# Altium integrated library Linear Technology Power Management Energy Harvesting.IntLib: 169 symbols (part 5 of 13)
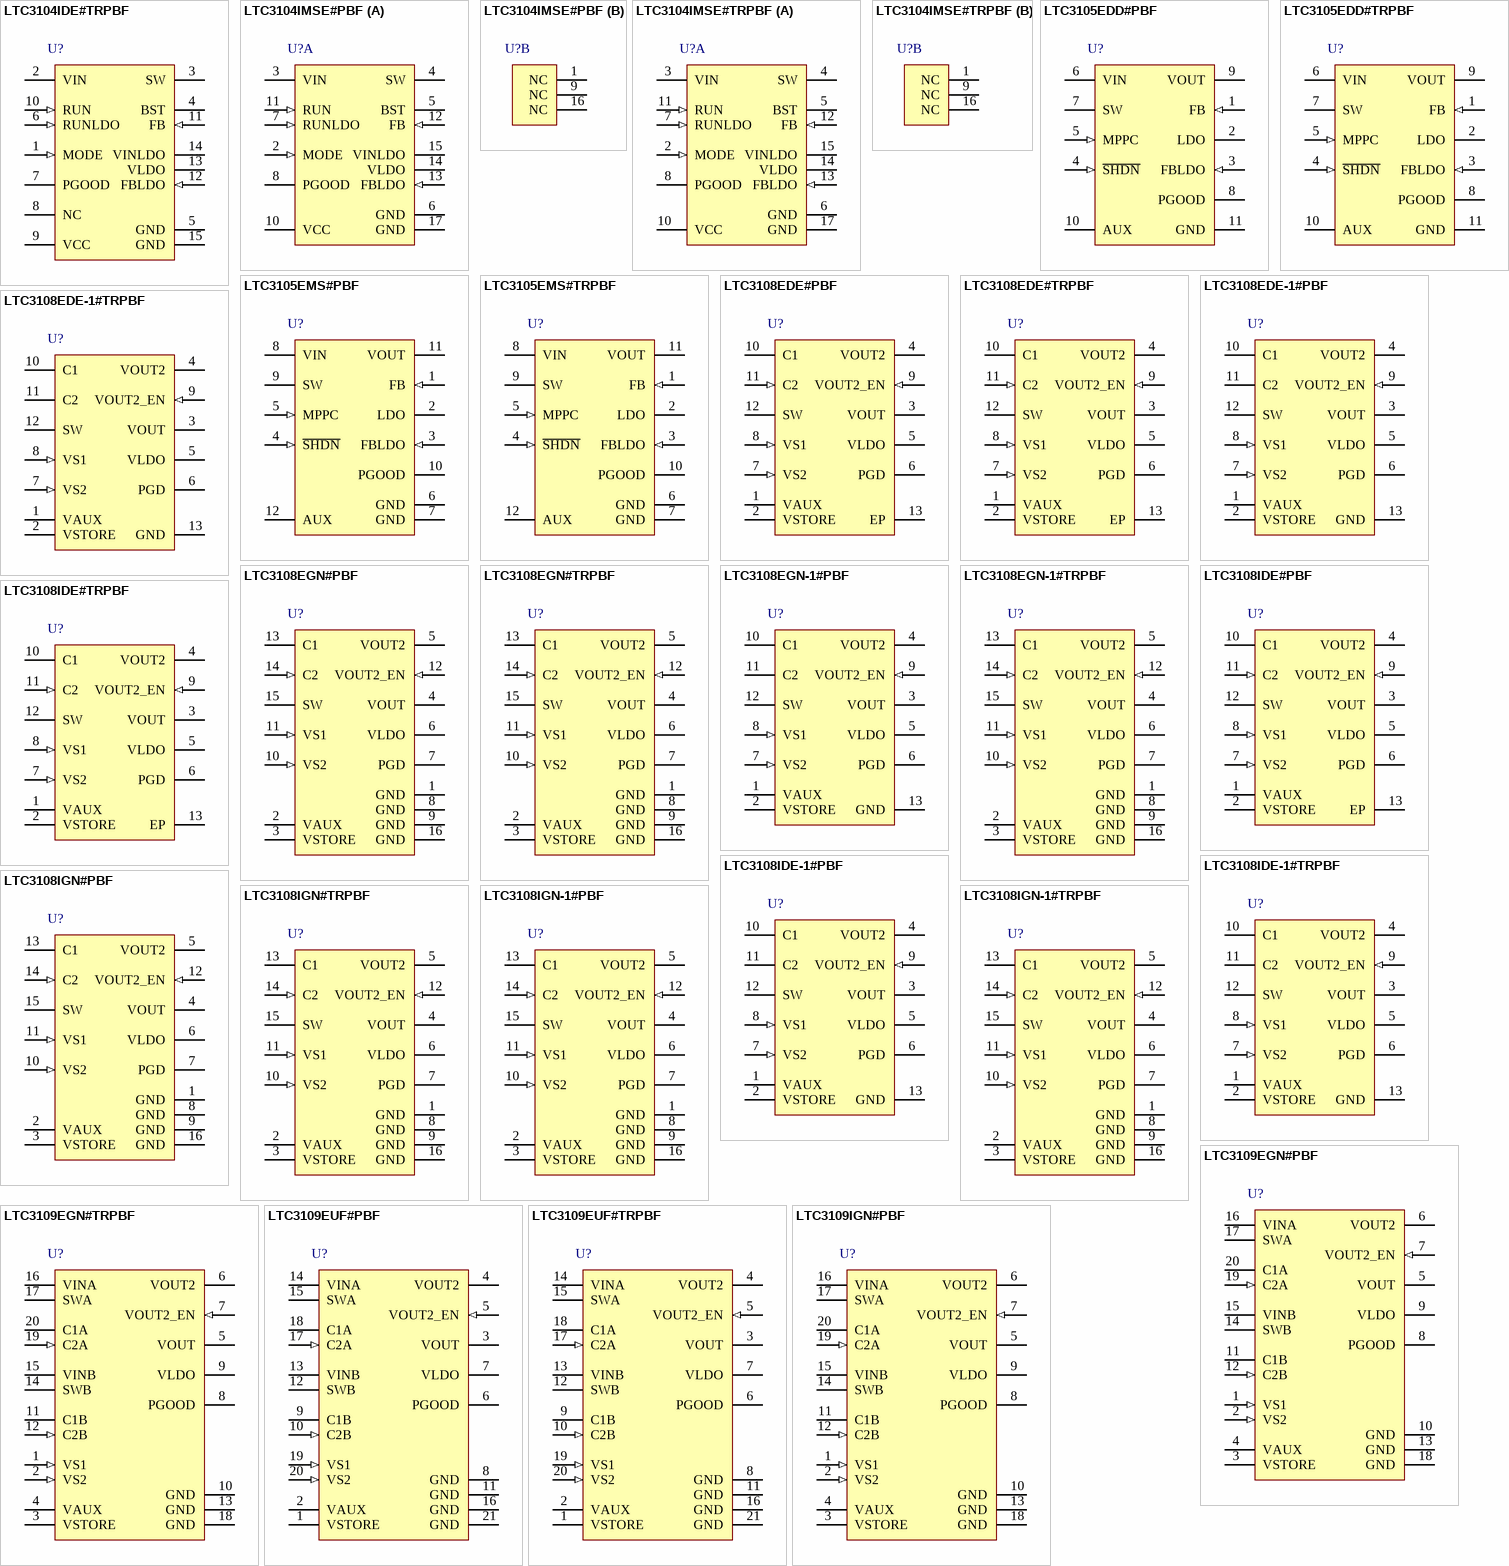
[diagram p9: symbols LTC3104IDE#TRPBF to LTC3109IGN#PBF]

## LTC3108IGN-1#TRPBF
designator U?
Ultralow Voltage Step-Up Converter and Power Manager, 16-pin SOP (GN-16), -40 to 125 degC, Pb-Free, Tape and Reel; Manufacturer: Linear Technology; PartNumber: LTC3108IGN-1#TRPBF; Energy Source: Thermoelectric; Number of Outputs: 3; Topology: Boost, LDO; Vin Max(V): 0.5; Vin Min(V): 0.02; Vout Max(V): 5; DatasheetVersion: Rev. A; PackageVersion: Rev. B, 03/2012; PackageReference: GN-16; PackageDescription: 16-Pin Plastic SSOP, Body 4.9 x 3.9 mm, Pitch 0.635 mm; Supplier 1: Digi-Key; Supplier Part Number 1: LTC3108IGN-1#TRPBF-ND; Packing: Tape and Reel; RoHS: TRUE; Mounting Technology: Surface Mount; ComponentLink1Description: Manufacturer URL; ComponentLink1URL: http://www.linear.com/; ComponentLink2Description: Datasheet; ComponentLink2URL: http://cds.linear.com/docs/en/datasheet/31081fa.pdf; ComponentLink3Description: Package Specification; ComponentLink3URL: http://cds.linear.com/docs/en/packaging/05081641_B_GN16.pdf
footprint LT-GN-16_N (SOP, 16-Leads, Body 5x4mm, Pitch 0.635mm, IPC Medium Density)
footprint LT-GN-16_L (SOP, 16-Leads, Body 5x4mm, Pitch 0.635mm, IPC High Density)
footprint LT-GN-16_M (SOP, 16-Leads, Body 5x4mm, Pitch 0.635mm, IPC Low Density)
pins: 1 GND (power) "Ground", 2 VAUX (power) "Output of the Internal Rectifier Circuit and VCC for the IC. Bypass VAUX with at least 1uF of capacitance. An active shunt regulator clamps VAUX to 5.25V (typical).", 3 VSTORE (power) "Output for the Storage Capacitor or Battery. A large capacitor may be connected from this pin to GND for powering the system in the event the input voltage is lost. It will be charged up to the maximum VAUX clamp voltage. If (See Datasheet)", 4 VOUT (power) "Main Output of the Converter. The voltage at this pin is regulated to the voltage selected by VS1 and VS2 (see Table 1). Connect this pin to an energy storage capacitor or to a rechargeable battery.", 5 VOUT2 (power) "Switched Output of the Converter. Connect this pin to a switched load. This output is open until VOUT2_EN is driven high, then it is connected to VOUT through a 1.3ohm P-channel switch. If not used, this pin should be left (See Datasheet)", 6 VLDO (power) "Output of the 2.2V LDO. Connect a 2.2uF or larger ceramic capacitor from this pin to GND. If not used, this pin should be tied to VAUX.", 7 PGD (oc) "Power Good Output. When VOUT is within 7.5% of its programmed value, PGD will be pulled up to VLDO through a 1Mohm resistor. If VOUT drops 9% below its programmed value PGD will go low. This pin can sink up to 100uA.", 8 GND (power) "Ground", 9 GND (power) "Ground", 10 VS2 (in) "VOUT Select Pin 2. Connect this pin to ground or VAUX to program the output voltage (see Table 1).", 11 VS1 (in) "VOUT Select Pin 1. Connect this pin to ground or VAUX to program the output voltage (see Table 1).", 12 VOUT2_EN (in) "Enable Input for VOUT2. VOUT2 will be enabled when this pin is driven high. There is an internal 5M pull-down resistor on this pin. If not used, this pin can be left open or grounded.", 13 C1 (power) "Input to the Charge Pump and Rectifier Circuit. Connect a capacitor from this pin to the secondary winding of the step-up transformer.", 14 C2 (in) "Input to the N-Channel Gate Drive Circuit. Connect a capacitor from this pin to the secondary winding of the step-up transformer.", 15 SW (power) "Drain of the Internal N-Channel Switch. Connect this pin to the primary winding of the transformer.", 16 GND (power) "Ground"

## LTC3109EGN#PBF
designator U?
Auto-Polarity, Ultralow Voltage Step-Up Converter and Power Manager, 20-pin SOP (GN-20), -40 to 125 degC, Pb-Free; Manufacturer: Linear Technology; PartNumber: LTC3109EGN#PBF; Energy Source: Thermoelectric; Number of Outputs: 3; Topology: Boost; Vin Max(V): 0.5; Vin Min(V): 0.02; Vout Max(V): 5; DatasheetVersion: Rev. A; PackageVersion: Rev. B, 03/2012; PackageReference: GN-20; PackageDescription: 20-Pin Plastic SSOP, Body 8.649 x 3.899 mm, Pitch 0.635 mm; Supplier 1: Digi-Key; Supplier Part Number 1: LTC3109EGN#PBF-ND; Supplier 2: Farnell; Supplier Part Number 2: 1839120; Supplier 3: Newark; Supplier Part Number 3: 84R6672; RoHS: TRUE; Mounting Technology: Surface Mount; ComponentLink1Description: Manufacturer URL; ComponentLink1URL: http://www.linear.com/; ComponentLink2Description: Datasheet; ComponentLink2URL: http://cds.linear.com/docs/en/datasheet/3109fa.pdf; ComponentLink3Description: Package Specification; ComponentLink3URL: http://cds.linear.com/docs/en/packaging/05081641_B_GN20.pdf
footprint LT-GN-20_N (SOP, 20-Leads, Body 8.7x4mm, Pitch 0.635mm, IPC Medium Density)
footprint LT-GN-20_L (SOP, 20-Leads, Body 8.7x4mm, Pitch 0.635mm, IPC High Density)
footprint LT-GN-20_M (SOP, 20-Leads, Body 8.7x4mm, Pitch 0.635mm, IPC Low Density)
pins: 1 VS1 (in) "VOUT Select Pin 1. Connect this pin to ground or VAUX to program the output voltage (see Table 1).", 2 VS2 (in) "VOUT Select Pin 2. Connect this pin to ground or VAUX to program the output voltage (see Table 1).", 3 VSTORE (power) "Output for the Storage Capacitor or Battery. A large storage capacitor may be connected from this pin to GND for powering the system in the event the input voltage is lost. It will be charged up to the maximum VAUX clamp (See Datasheet)", 4 VAUX (power) "Output of the Internal Recti?er Circuit and VCC for the IC. Bypass VAUX with at least 1uF of capacitance to ground. An active shunt regulator clamps VAUX to 5.25V (typical).", 5 VOUT (power) "Main Output of the Converter. The voltage at this pin is regulated to the voltage selected by VS1 and VS2 (see Table 1). Connect this pin to a reservoir capacitor or to a rechargeable battery. Any high current pulse loads (See Datasheet)", 6 VOUT2 (power) "Switched Output of the Converter. Connect this pin to a switched load. This output is open until VOUT_EN is driven high, then it is connected to VOUT through a 1ohm PMOS switch. If not used, this pin should be left open or (See Datasheet)", 7 VOUT2_EN (in) "Enable Input for VOUT2. VOUT2 will be enabled when this pin is driven high. There is an internal 5M pull-down resistor on this pin. If not used, this pin can be left open or grounded.", 8 PGOOD (oc) "Power Good Output. When VOUT is within 7.5% of its programmed value, this pin will be pulled up to the LDO voltage through a 1M resistor. If VOUT drops 9% below its programmed value PGOOD will go low. This pin can sink up to (See Datasheet)", 9 VLDO (power) "Output of the 2.2V LDO. Connect a 2.2uF or larger ceramic capacitor from this pin to GND. If not used, this pin should be tied to VAUX.", 10 GND (power) "Ground Pins. Connect these pins directly to the ground plane. The exposed pad serves as a ground connection and as a means of conducting heat away from the die.", 11 C1B (power) "Input to the Charge Pump and Recti?er Circuit for Channel B. Connect a capacitor from this pin to the secondary winding of the “B" step-up transformer. See the Applications Information section for recommended capa(See Datasheet)", 12 C2B (in) "Input to the Gate Drive Circuit for SWB. Connect a capacitor from this pin to the secondary winding of the “B" step-up transformer. See the Applications Information section for recommended capacitor values.", 13 GND (power) "Ground Pins. Connect these pins directly to the ground plane. The exposed pad serves as a ground connection and as a means of conducting heat away from the die.", 14 SWB (power) "Connection to the Internal N-Channel Switch for Channel B. Connect this pin to the primary winding of the “B" transformer.", 15 VINB (power) "Connection to the Internal N-Channel Switch for Channel B. Connect this pin to the other side of the input voltage source (see Typical Applications).", 16 VINA (power) "Connection to the Internal N-Channel Switch for Channel A. Connect this pin to one side of the input voltage source (see Typical Applications).", 17 SWA (power) "Connection to the Internal N-Channel Switch for Channel A. Connect this pin to the primary winding of the “A" transformer.", 18 GND (power) "Ground Pins. Connect these pins directly to the ground plane. The exposed pad serves as a ground connection and as a means of conducting heat away from the die.", 19 C2A (in) "Input to the Gate Drive Circuit for SWB. Connect a capacitor from this pin to the secondary winding of the “A" step-up transformer. See the Applications Information section for recommended capacitor values.", 20 C1A (power) "Input to the Charge Pump and Rectifier Circuit for Channel A. Connect a capacitor from this pin to the secondary winding of the “A" step-up transformer. See the Applications Information section for recommended capa(See Datasheet)"

## LTC3109EGN#TRPBF
designator U?
Auto-Polarity, Ultralow Voltage Step-Up Converter and Power Manager, 20-pin SOP (GN-20), -40 to 125 degC, Pb-Free, Tape and Reel; Manufacturer: Linear Technology; PartNumber: LTC3109EGN#TRPBF; Energy Source: Thermoelectric; Number of Outputs: 3; Topology: Boost; Vin Max(V): 0.5; Vin Min(V): 0.02; Vout Max(V): 5; DatasheetVersion: Rev. A; PackageVersion: Rev. B, 03/2012; PackageReference: GN-20; PackageDescription: 20-Pin Plastic SSOP, Body 8.649 x 3.899 mm, Pitch 0.635 mm; Supplier 1: Digi-Key; Supplier Part Number 1: LTC3109EGN#TRPBF-ND; Packing: Tape and Reel; RoHS: TRUE; Mounting Technology: Surface Mount; ComponentLink1Description: Manufacturer URL; ComponentLink1URL: http://www.linear.com/; ComponentLink2Description: Datasheet; ComponentLink2URL: http://cds.linear.com/docs/en/datasheet/3109fa.pdf; ComponentLink3Description: Package Specification; ComponentLink3URL: http://cds.linear.com/docs/en/packaging/05081641_B_GN20.pdf
footprint LT-GN-20_N (SOP, 20-Leads, Body 8.7x4mm, Pitch 0.635mm, IPC Medium Density)
footprint LT-GN-20_L (SOP, 20-Leads, Body 8.7x4mm, Pitch 0.635mm, IPC High Density)
footprint LT-GN-20_M (SOP, 20-Leads, Body 8.7x4mm, Pitch 0.635mm, IPC Low Density)
pins: 1 VS1 (in) "VOUT Select Pin 1. Connect this pin to ground or VAUX to program the output voltage (see Table 1).", 2 VS2 (in) "VOUT Select Pin 2. Connect this pin to ground or VAUX to program the output voltage (see Table 1).", 3 VSTORE (power) "Output for the Storage Capacitor or Battery. A large storage capacitor may be connected from this pin to GND for powering the system in the event the input voltage is lost. It will be charged up to the maximum VAUX clamp (See Datasheet)", 4 VAUX (power) "Output of the Internal Recti?er Circuit and VCC for the IC. Bypass VAUX with at least 1uF of capacitance to ground. An active shunt regulator clamps VAUX to 5.25V (typical).", 5 VOUT (power) "Main Output of the Converter. The voltage at this pin is regulated to the voltage selected by VS1 and VS2 (see Table 1). Connect this pin to a reservoir capacitor or to a rechargeable battery. Any high current pulse loads (See Datasheet)", 6 VOUT2 (power) "Switched Output of the Converter. Connect this pin to a switched load. This output is open until VOUT_EN is driven high, then it is connected to VOUT through a 1ohm PMOS switch. If not used, this pin should be left open or (See Datasheet)", 7 VOUT2_EN (in) "Enable Input for VOUT2. VOUT2 will be enabled when this pin is driven high. There is an internal 5M pull-down resistor on this pin. If not used, this pin can be left open or grounded.", 8 PGOOD (oc) "Power Good Output. When VOUT is within 7.5% of its programmed value, this pin will be pulled up to the LDO voltage through a 1M resistor. If VOUT drops 9% below its programmed value PGOOD will go low. This pin can sink up to (See Datasheet)", 9 VLDO (power) "Output of the 2.2V LDO. Connect a 2.2uF or larger ceramic capacitor from this pin to GND. If not used, this pin should be tied to VAUX.", 10 GND (power) "Ground Pins. Connect these pins directly to the ground plane. The exposed pad serves as a ground connection and as a means of conducting heat away from the die.", 11 C1B (power) "Input to the Charge Pump and Recti?er Circuit for Channel B. Connect a capacitor from this pin to the secondary winding of the “B" step-up transformer. See the Applications Information section for recommended capa(See Datasheet)", 12 C2B (in) "Input to the Gate Drive Circuit for SWB. Connect a capacitor from this pin to the secondary winding of the “B" step-up transformer. See the Applications Information section for recommended capacitor values.", 13 GND (power) "Ground Pins. Connect these pins directly to the ground plane. The exposed pad serves as a ground connection and as a means of conducting heat away from the die.", 14 SWB (power) "Connection to the Internal N-Channel Switch for Channel B. Connect this pin to the primary winding of the “B" transformer.", 15 VINB (power) "Connection to the Internal N-Channel Switch for Channel B. Connect this pin to the other side of the input voltage source (see Typical Applications).", 16 VINA (power) "Connection to the Internal N-Channel Switch for Channel A. Connect this pin to one side of the input voltage source (see Typical Applications).", 17 SWA (power) "Connection to the Internal N-Channel Switch for Channel A. Connect this pin to the primary winding of the “A" transformer.", 18 GND (power) "Ground Pins. Connect these pins directly to the ground plane. The exposed pad serves as a ground connection and as a means of conducting heat away from the die.", 19 C2A (in) "Input to the Gate Drive Circuit for SWB. Connect a capacitor from this pin to the secondary winding of the “A" step-up transformer. See the Applications Information section for recommended capacitor values.", 20 C1A (power) "Input to the Charge Pump and Rectifier Circuit for Channel A. Connect a capacitor from this pin to the secondary winding of the “A" step-up transformer. See the Applications Information section for recommended capa(See Datasheet)"

## LTC3109EUF#PBF
designator U?
Auto-Polarity, Ultralow Voltage Step-Up Converter and Power Manager, 20-pin QFN (UF20), -40 to 125 degC, Pb-Free; Manufacturer: Linear Technology; PartNumber: LTC3109EUF#PBF; Energy Source: Thermoelectric; Number of Outputs: 3; Topology: Boost; Vin Max(V): 0.5; Vin Min(V): 0.02; Vout Max(V): 5; DatasheetVersion: Rev. A; PackageVersion: Rev. A, 10/2010; PackageReference: UF20; PackageDescription: 20-Pin Plastic QFN, Body 4 x 4 mm, Pitch 0.5 mm; Supplier 1: Digi-Key; Supplier Part Number 1: LTC3109EUF#PBF-ND; Supplier 2: Farnell; Supplier Part Number 2: 1839118; Supplier 3: Newark; Supplier Part Number 3: 84R6674; RoHS: TRUE; Mounting Technology: Surface Mount; Code_JEDEC: MO-220; ComponentLink1Description: Manufacturer URL; ComponentLink1URL: http://www.linear.com/; ComponentLink2Description: Datasheet; ComponentLink2URL: http://cds.linear.com/docs/en/datasheet/3109fa.pdf; ComponentLink3Description: Package Specification; ComponentLink3URL: http://cds.linear.com/docs/en/packaging/QFN_20_05-08-1710.pdf
footprint LT-UF-20_N (QFN, 20-Leads, Body 4.1x4.1mm, Pitch 0.5mm, Thermal Pad 2.45x2.45mm, IPC Medium Density)
footprint LT-UF-20_L (QFN, 20-Leads, Body 4.1x4.1mm, Pitch 0.5mm, Thermal Pad 2.45x2.45mm, IPC High Density)
footprint LT-UF-20_M (QFN, 20-Leads, Body 4.1x4.1mm, Pitch 0.5mm, Thermal Pad 2.45x2.45mm, IPC Low Density)
pins: 1 VSTORE (power) "Output for the Storage Capacitor or Battery. A large storage capacitor may be connected from this pin to GND for powering the system in the event the input voltage is lost. It will be charged up to the maximum VAUX clamp (See Datasheet)", 2 VAUX (power) "Output of the Internal Recti?er Circuit and VCC for the IC. Bypass VAUX with at least 1uF of capacitance to ground. An active shunt regulator clamps VAUX to 5.25V (typical).", 3 VOUT (power) "Main Output of the Converter. The voltage at this pin is regulated to the voltage selected by VS1 and VS2 (see Table 1). Connect this pin to a reservoir capacitor or to a rechargeable battery. Any high current pulse loads (See Datasheet)", 4 VOUT2 (power) "Switched Output of the Converter. Connect this pin to a switched load. This output is open until VOUT_EN is driven high, then it is connected to VOUT through a 1ohm PMOS switch. If not used, this pin should be left open or (See Datasheet)", 5 VOUT2_EN (in) "Enable Input for VOUT2. VOUT2 will be enabled when this pin is driven high. There is an internal 5M pull-down resistor on this pin. If not used, this pin can be left open or grounded.", 6 PGOOD (oc) "Power Good Output. When VOUT is within 7.5% of its programmed value, this pin will be pulled up to the LDO voltage through a 1M resistor. If VOUT drops 9% below its programmed value PGOOD will go low. This pin can sink up to (See Datasheet)", 7 VLDO (power) "Output of the 2.2V LDO. Connect a 2.2uF or larger ceramic capacitor from this pin to GND. If not used, this pin should be tied to VAUX.", 8 GND (power) "Ground Pins. Connect these pins directly to the ground plane. The exposed pad serves as a ground connection and as a means of conducting heat away from the die.", 9 C1B (power) "Input to the Charge Pump and Recti?er Circuit for Channel B. Connect a capacitor from this pin to the secondary winding of the “B” step-up transformer. See the Applications Information section for recommended capa(See Datasheet)", 10 C2B (in) "Input to the Gate Drive Circuit for SWB. Connect a capacitor from this pin to the secondary winding of the “B” step-up transformer. See the Applications Information section for recommended capacitor values.", 11 GND (power) "Ground Pins. Connect these pins directly to the ground plane. The exposed pad serves as a ground connection and as a means of conducting heat away from the die.", 12 SWB (power) "Connection to the Internal N-Channel Switch for Channel B. Connect this pin to the primary winding of the “B” transformer.", 13 VINB (power) "Connection to the Internal N-Channel Switch for Channel B. Connect this pin to the other side of the input voltage source (see Typical Applications).", 14 VINA (power) "Connection to the Internal N-Channel Switch for Channel A. Connect this pin to one side of the input voltage source (see Typical Applications).", 15 SWA (power) "Connection to the Internal N-Channel Switch for Channel A. Connect this pin to the primary winding of the “A” transformer.", 16 GND (power) "Ground Pins. Connect these pins directly to the ground plane. The exposed pad serves as a ground connection and as a means of conducting heat away from the die.", 17 C2A (in) "Input to the Gate Drive Circuit for SWB. Connect a capacitor from this pin to the secondary winding of the “A” step-up transformer. See the Applications Information section for recommended capacitor values.", 18 C1A (power) "Input to the Charge Pump and Recti?er Circuit for Channel A. Connect a capacitor from this pin to the secondary winding of the “A” step-up transformer. See the Applications Information section for recommended capa(See Datasheet)", 19 VS1 (in) "VOUT Select Pin 1. Connect this pin to ground or VAUX to program the output voltage (see Table 1).", 20 VS2 (in) "VOUT Select Pin 2. Connect this pin to ground or VAUX to program the output voltage (see Table 1).", 21 GND (power) "Ground Pins. Connect these pins directly to the ground plane. The exposed pad serves as a ground connection and as a means of conducting heat away from the die."

## LTC3109EUF#TRPBF
designator U?
Auto-Polarity, Ultralow Voltage Step-Up Converter and Power Manager, 20-pin QFN (UF20), -40 to 125 degC, Pb-Free, Tape and Reel; Manufacturer: Linear Technology; PartNumber: LTC3109EUF#TRPBF; Energy Source: Thermoelectric; Number of Outputs: 3; Topology: Boost; Vin Max(V): 0.5; Vin Min(V): 0.02; Vout Max(V): 5; DatasheetVersion: Rev. A; PackageVersion: Rev. A, 10/2010; PackageReference: UF20; PackageDescription: 20-Pin Plastic QFN, Body 4 x 4 mm, Pitch 0.5 mm; Supplier 1: Digi-Key; Supplier Part Number 1: LTC3109EUF#TRPBF-ND; Packing: Tape and Reel; RoHS: TRUE; Mounting Technology: Surface Mount; Code_JEDEC: MO-220; ComponentLink1Description: Manufacturer URL; ComponentLink1URL: http://www.linear.com/; ComponentLink2Description: Datasheet; ComponentLink2URL: http://cds.linear.com/docs/en/datasheet/3109fa.pdf; ComponentLink3Description: Package Specification; ComponentLink3URL: http://cds.linear.com/docs/en/packaging/QFN_20_05-08-1710.pdf
footprint LT-UF-20_N (QFN, 20-Leads, Body 4.1x4.1mm, Pitch 0.5mm, Thermal Pad 2.45x2.45mm, IPC Medium Density)
footprint LT-UF-20_L (QFN, 20-Leads, Body 4.1x4.1mm, Pitch 0.5mm, Thermal Pad 2.45x2.45mm, IPC High Density)
footprint LT-UF-20_M (QFN, 20-Leads, Body 4.1x4.1mm, Pitch 0.5mm, Thermal Pad 2.45x2.45mm, IPC Low Density)
pins: 1 VSTORE (power) "Output for the Storage Capacitor or Battery. A large storage capacitor may be connected from this pin to GND for powering the system in the event the input voltage is lost. It will be charged up to the maximum VAUX clamp (See Datasheet)", 2 VAUX (power) "Output of the Internal Recti?er Circuit and VCC for the IC. Bypass VAUX with at least 1uF of capacitance to ground. An active shunt regulator clamps VAUX to 5.25V (typical).", 3 VOUT (power) "Main Output of the Converter. The voltage at this pin is regulated to the voltage selected by VS1 and VS2 (see Table 1). Connect this pin to a reservoir capacitor or to a rechargeable battery. Any high current pulse loads (See Datasheet)", 4 VOUT2 (power) "Switched Output of the Converter. Connect this pin to a switched load. This output is open until VOUT_EN is driven high, then it is connected to VOUT through a 1ohm PMOS switch. If not used, this pin should be left open or (See Datasheet)", 5 VOUT2_EN (in) "Enable Input for VOUT2. VOUT2 will be enabled when this pin is driven high. There is an internal 5M pull-down resistor on this pin. If not used, this pin can be left open or grounded.", 6 PGOOD (oc) "Power Good Output. When VOUT is within 7.5% of its programmed value, this pin will be pulled up to the LDO voltage through a 1M resistor. If VOUT drops 9% below its programmed value PGOOD will go low. This pin can sink up to (See Datasheet)", 7 VLDO (power) "Output of the 2.2V LDO. Connect a 2.2uF or larger ceramic capacitor from this pin to GND. If not used, this pin should be tied to VAUX.", 8 GND (power) "Ground Pins. Connect these pins directly to the ground plane. The exposed pad serves as a ground connection and as a means of conducting heat away from the die.", 9 C1B (power) "Input to the Charge Pump and Recti?er Circuit for Channel B. Connect a capacitor from this pin to the secondary winding of the “B” step-up transformer. See the Applications Information section for recommended capa(See Datasheet)", 10 C2B (in) "Input to the Gate Drive Circuit for SWB. Connect a capacitor from this pin to the secondary winding of the “B” step-up transformer. See the Applications Information section for recommended capacitor values.", 11 GND (power) "Ground Pins. Connect these pins directly to the ground plane. The exposed pad serves as a ground connection and as a means of conducting heat away from the die.", 12 SWB (power) "Connection to the Internal N-Channel Switch for Channel B. Connect this pin to the primary winding of the “B” transformer.", 13 VINB (power) "Connection to the Internal N-Channel Switch for Channel B. Connect this pin to the other side of the input voltage source (see Typical Applications).", 14 VINA (power) "Connection to the Internal N-Channel Switch for Channel A. Connect this pin to one side of the input voltage source (see Typical Applications).", 15 SWA (power) "Connection to the Internal N-Channel Switch for Channel A. Connect this pin to the primary winding of the “A” transformer.", 16 GND (power) "Ground Pins. Connect these pins directly to the ground plane. The exposed pad serves as a ground connection and as a means of conducting heat away from the die.", 17 C2A (in) "Input to the Gate Drive Circuit for SWB. Connect a capacitor from this pin to the secondary winding of the “A” step-up transformer. See the Applications Information section for recommended capacitor values.", 18 C1A (power) "Input to the Charge Pump and Recti?er Circuit for Channel A. Connect a capacitor from this pin to the secondary winding of the “A” step-up transformer. See the Applications Information section for recommended capa(See Datasheet)", 19 VS1 (in) "VOUT Select Pin 1. Connect this pin to ground or VAUX to program the output voltage (see Table 1).", 20 VS2 (in) "VOUT Select Pin 2. Connect this pin to ground or VAUX to program the output voltage (see Table 1).", 21 GND (power) "Ground Pins. Connect these pins directly to the ground plane. The exposed pad serves as a ground connection and as a means of conducting heat away from the die."

## LTC3109IGN#PBF
designator U?
Auto-Polarity, Ultralow Voltage Step-Up Converter and Power Manager, 20-pin SOP (GN-20), -40 to 125 degC, Pb-Free; Manufacturer: Linear Technology; PartNumber: LTC3109IGN#PBF; Energy Source: Thermoelectric; Number of Outputs: 3; Topology: Boost; Vin Max(V): 0.5; Vin Min(V): 0.02; Vout Max(V): 5; DatasheetVersion: Rev. A; PackageVersion: Rev. B, 03/2012; PackageReference: GN-20; PackageDescription: 20-Pin Plastic SSOP, Body 8.649 x 3.899 mm, Pitch 0.635 mm; Supplier 1: Digi-Key; Supplier Part Number 1: LTC3109IGN#PBF-ND; Supplier 2: Farnell; Supplier Part Number 2: 1839121; RoHS: TRUE; Mounting Technology: Surface Mount; ComponentLink1Description: Manufacturer URL; ComponentLink1URL: http://www.linear.com/; ComponentLink2Description: Datasheet; ComponentLink2URL: http://cds.linear.com/docs/en/datasheet/3109fa.pdf; ComponentLink3Description: Package Specification; ComponentLink3URL: http://cds.linear.com/docs/en/packaging/05081641_B_GN20.pdf
footprint LT-GN-20_N (SOP, 20-Leads, Body 8.7x4mm, Pitch 0.635mm, IPC Medium Density)
footprint LT-GN-20_L (SOP, 20-Leads, Body 8.7x4mm, Pitch 0.635mm, IPC High Density)
footprint LT-GN-20_M (SOP, 20-Leads, Body 8.7x4mm, Pitch 0.635mm, IPC Low Density)
pins: 1 VS1 (in) "VOUT Select Pin 1. Connect this pin to ground or VAUX to program the output voltage (see Table 1).", 2 VS2 (in) "VOUT Select Pin 2. Connect this pin to ground or VAUX to program the output voltage (see Table 1).", 3 VSTORE (power) "Output for the Storage Capacitor or Battery. A large storage capacitor may be connected from this pin to GND for powering the system in the event the input voltage is lost. It will be charged up to the maximum VAUX clamp (See Datasheet)", 4 VAUX (power) "Output of the Internal Recti?er Circuit and VCC for the IC. Bypass VAUX with at least 1uF of capacitance to ground. An active shunt regulator clamps VAUX to 5.25V (typical).", 5 VOUT (power) "Main Output of the Converter. The voltage at this pin is regulated to the voltage selected by VS1 and VS2 (see Table 1). Connect this pin to a reservoir capacitor or to a rechargeable battery. Any high current pulse loads (See Datasheet)", 6 VOUT2 (power) "Switched Output of the Converter. Connect this pin to a switched load. This output is open until VOUT_EN is driven high, then it is connected to VOUT through a 1ohm PMOS switch. If not used, this pin should be left open or (See Datasheet)", 7 VOUT2_EN (in) "Enable Input for VOUT2. VOUT2 will be enabled when this pin is driven high. There is an internal 5M pull-down resistor on this pin. If not used, this pin can be left open or grounded.", 8 PGOOD (oc) "Power Good Output. When VOUT is within 7.5% of its programmed value, this pin will be pulled up to the LDO voltage through a 1M resistor. If VOUT drops 9% below its programmed value PGOOD will go low. This pin can sink up to (See Datasheet)", 9 VLDO (power) "Output of the 2.2V LDO. Connect a 2.2uF or larger ceramic capacitor from this pin to GND. If not used, this pin should be tied to VAUX.", 10 GND (power) "Ground Pins. Connect these pins directly to the ground plane. The exposed pad serves as a ground connection and as a means of conducting heat away from the die.", 11 C1B (power) "Input to the Charge Pump and Recti?er Circuit for Channel B. Connect a capacitor from this pin to the secondary winding of the “B" step-up transformer. See the Applications Information section for recommended capa(See Datasheet)", 12 C2B (in) "Input to the Gate Drive Circuit for SWB. Connect a capacitor from this pin to the secondary winding of the “B" step-up transformer. See the Applications Information section for recommended capacitor values.", 13 GND (power) "Ground Pins. Connect these pins directly to the ground plane. The exposed pad serves as a ground connection and as a means of conducting heat away from the die.", 14 SWB (power) "Connection to the Internal N-Channel Switch for Channel B. Connect this pin to the primary winding of the “B" transformer.", 15 VINB (power) "Connection to the Internal N-Channel Switch for Channel B. Connect this pin to the other side of the input voltage source (see Typical Applications).", 16 VINA (power) "Connection to the Internal N-Channel Switch for Channel A. Connect this pin to one side of the input voltage source (see Typical Applications).", 17 SWA (power) "Connection to the Internal N-Channel Switch for Channel A. Connect this pin to the primary winding of the “A" transformer.", 18 GND (power) "Ground Pins. Connect these pins directly to the ground plane. The exposed pad serves as a ground connection and as a means of conducting heat away from the die.", 19 C2A (in) "Input to the Gate Drive Circuit for SWB. Connect a capacitor from this pin to the secondary winding of the “A" step-up transformer. See the Applications Information section for recommended capacitor values.", 20 C1A (power) "Input to the Charge Pump and Rectifier Circuit for Channel A. Connect a capacitor from this pin to the secondary winding of the “A" step-up transformer. See the Applications Information section for recommended capa(See Datasheet)"

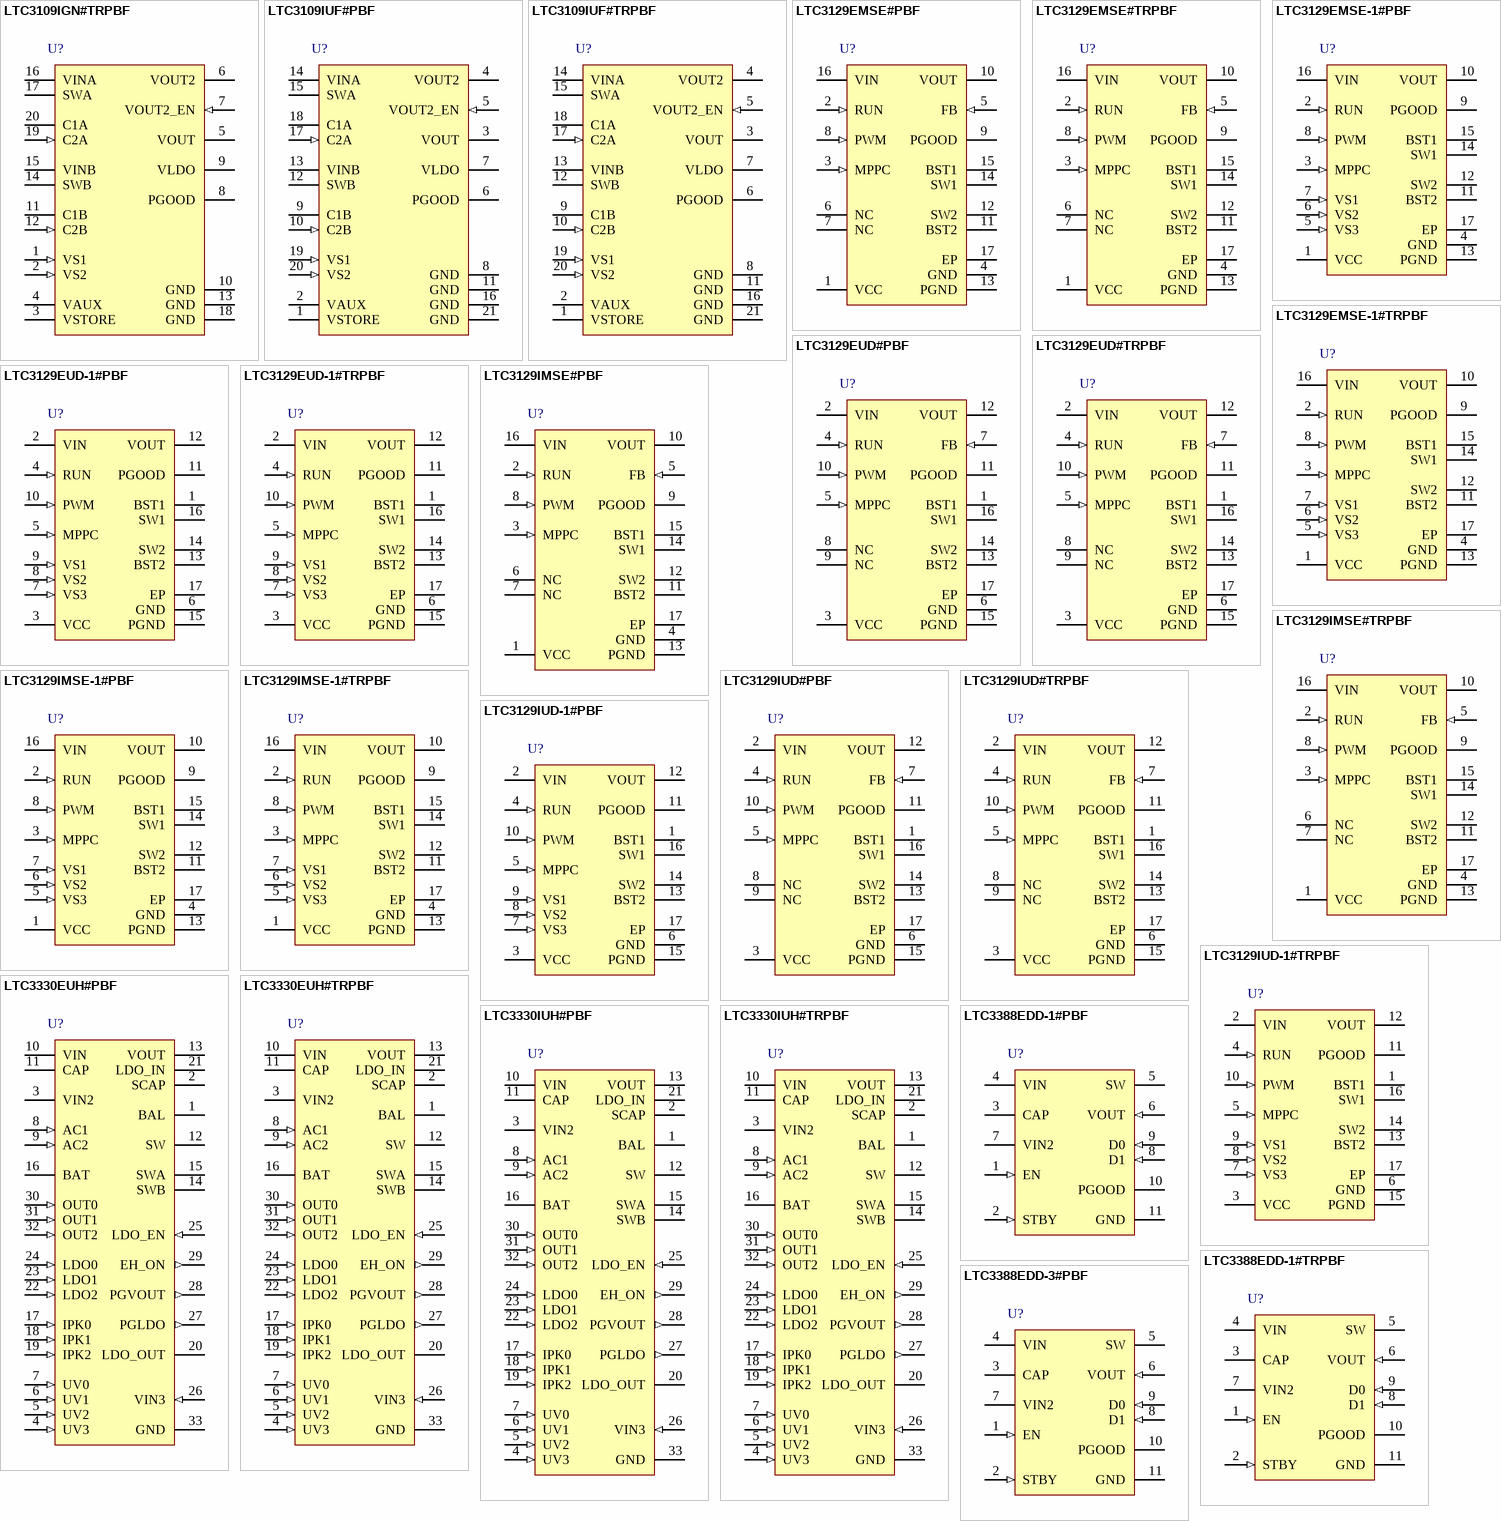
[diagram p2: symbols LTC3109IGN#TRPBF to LTC3388EDD-3#PBF]

## LTC3109IGN#TRPBF
designator U?
Auto-Polarity, Ultralow Voltage Step-Up Converter and Power Manager, 20-pin SOP (GN-20), -40 to 125 degC, Pb-Free, Tape and Reel; Manufacturer: Linear Technology; PartNumber: LTC3109IGN#TRPBF; Energy Source: Thermoelectric; Number of Outputs: 3; Topology: Boost; Vin Max(V): 0.5; Vin Min(V): 0.02; Vout Max(V): 5; DatasheetVersion: Rev. A; PackageVersion: Rev. B, 03/2012; PackageReference: GN-20; PackageDescription: 20-Pin Plastic SSOP, Body 8.649 x 3.899 mm, Pitch 0.635 mm; Supplier 1: Digi-Key; Supplier Part Number 1: LTC3109IGN#TRPBF-ND; Packing: Tape and Reel; RoHS: TRUE; Mounting Technology: Surface Mount; ComponentLink1Description: Manufacturer URL; ComponentLink1URL: http://www.linear.com/; ComponentLink2Description: Datasheet; ComponentLink2URL: http://cds.linear.com/docs/en/datasheet/3109fa.pdf; ComponentLink3Description: Package Specification; ComponentLink3URL: http://cds.linear.com/docs/en/packaging/05081641_B_GN20.pdf
footprint LT-GN-20_N (SOP, 20-Leads, Body 8.7x4mm, Pitch 0.635mm, IPC Medium Density)
footprint LT-GN-20_L (SOP, 20-Leads, Body 8.7x4mm, Pitch 0.635mm, IPC High Density)
footprint LT-GN-20_M (SOP, 20-Leads, Body 8.7x4mm, Pitch 0.635mm, IPC Low Density)
pins: 1 VS1 (in) "VOUT Select Pin 1. Connect this pin to ground or VAUX to program the output voltage (see Table 1).", 2 VS2 (in) "VOUT Select Pin 2. Connect this pin to ground or VAUX to program the output voltage (see Table 1).", 3 VSTORE (power) "Output for the Storage Capacitor or Battery. A large storage capacitor may be connected from this pin to GND for powering the system in the event the input voltage is lost. It will be charged up to the maximum VAUX clamp (See Datasheet)", 4 VAUX (power) "Output of the Internal Recti?er Circuit and VCC for the IC. Bypass VAUX with at least 1uF of capacitance to ground. An active shunt regulator clamps VAUX to 5.25V (typical).", 5 VOUT (power) "Main Output of the Converter. The voltage at this pin is regulated to the voltage selected by VS1 and VS2 (see Table 1). Connect this pin to a reservoir capacitor or to a rechargeable battery. Any high current pulse loads (See Datasheet)", 6 VOUT2 (power) "Switched Output of the Converter. Connect this pin to a switched load. This output is open until VOUT_EN is driven high, then it is connected to VOUT through a 1ohm PMOS switch. If not used, this pin should be left open or (See Datasheet)", 7 VOUT2_EN (in) "Enable Input for VOUT2. VOUT2 will be enabled when this pin is driven high. There is an internal 5M pull-down resistor on this pin. If not used, this pin can be left open or grounded.", 8 PGOOD (oc) "Power Good Output. When VOUT is within 7.5% of its programmed value, this pin will be pulled up to the LDO voltage through a 1M resistor. If VOUT drops 9% below its programmed value PGOOD will go low. This pin can sink up to (See Datasheet)", 9 VLDO (power) "Output of the 2.2V LDO. Connect a 2.2uF or larger ceramic capacitor from this pin to GND. If not used, this pin should be tied to VAUX.", 10 GND (power) "Ground Pins. Connect these pins directly to the ground plane. The exposed pad serves as a ground connection and as a means of conducting heat away from the die.", 11 C1B (power) "Input to the Charge Pump and Recti?er Circuit for Channel B. Connect a capacitor from this pin to the secondary winding of the “B" step-up transformer. See the Applications Information section for recommended capa(See Datasheet)", 12 C2B (in) "Input to the Gate Drive Circuit for SWB. Connect a capacitor from this pin to the secondary winding of the “B" step-up transformer. See the Applications Information section for recommended capacitor values.", 13 GND (power) "Ground Pins. Connect these pins directly to the ground plane. The exposed pad serves as a ground connection and as a means of conducting heat away from the die.", 14 SWB (power) "Connection to the Internal N-Channel Switch for Channel B. Connect this pin to the primary winding of the “B" transformer.", 15 VINB (power) "Connection to the Internal N-Channel Switch for Channel B. Connect this pin to the other side of the input voltage source (see Typical Applications).", 16 VINA (power) "Connection to the Internal N-Channel Switch for Channel A. Connect this pin to one side of the input voltage source (see Typical Applications).", 17 SWA (power) "Connection to the Internal N-Channel Switch for Channel A. Connect this pin to the primary winding of the “A" transformer.", 18 GND (power) "Ground Pins. Connect these pins directly to the ground plane. The exposed pad serves as a ground connection and as a means of conducting heat away from the die.", 19 C2A (in) "Input to the Gate Drive Circuit for SWB. Connect a capacitor from this pin to the secondary winding of the “A" step-up transformer. See the Applications Information section for recommended capacitor values.", 20 C1A (power) "Input to the Charge Pump and Rectifier Circuit for Channel A. Connect a capacitor from this pin to the secondary winding of the “A" step-up transformer. See the Applications Information section for recommended capa(See Datasheet)"

## LTC3109IUF#PBF
designator U?
Auto-Polarity, Ultralow Voltage Step-Up Converter and Power Manager, 20-pin QFN (UF20), -40 to 125 degC, Pb-Free; Manufacturer: Linear Technology; PartNumber: LTC3109IUF#PBF; Energy Source: Thermoelectric; Number of Outputs: 3; Topology: Boost; Vin Max(V): 0.5; Vin Min(V): 0.02; Vout Max(V): 5; DatasheetVersion: Rev. A; PackageVersion: Rev. A, 10/2010; PackageReference: UF20; PackageDescription: 20-Pin Plastic QFN, Body 4 x 4 mm, Pitch 0.5 mm; Supplier 1: Digi-Key; Supplier Part Number 1: LTC3109IUF#PBF-ND; Supplier 2: Farnell; Supplier Part Number 2: 1839119; RoHS: TRUE; Mounting Technology: Surface Mount; Code_JEDEC: MO-220; ComponentLink1Description: Manufacturer URL; ComponentLink1URL: http://www.linear.com/; ComponentLink2Description: Datasheet; ComponentLink2URL: http://cds.linear.com/docs/en/datasheet/3109fa.pdf; ComponentLink3Description: Package Specification; ComponentLink3URL: http://cds.linear.com/docs/en/packaging/QFN_20_05-08-1710.pdf
footprint LT-UF-20_N (QFN, 20-Leads, Body 4.1x4.1mm, Pitch 0.5mm, Thermal Pad 2.45x2.45mm, IPC Medium Density)
footprint LT-UF-20_L (QFN, 20-Leads, Body 4.1x4.1mm, Pitch 0.5mm, Thermal Pad 2.45x2.45mm, IPC High Density)
footprint LT-UF-20_M (QFN, 20-Leads, Body 4.1x4.1mm, Pitch 0.5mm, Thermal Pad 2.45x2.45mm, IPC Low Density)
pins: 1 VSTORE (power) "Output for the Storage Capacitor or Battery. A large storage capacitor may be connected from this pin to GND for powering the system in the event the input voltage is lost. It will be charged up to the maximum VAUX clamp (See Datasheet)", 2 VAUX (power) "Output of the Internal Recti?er Circuit and VCC for the IC. Bypass VAUX with at least 1uF of capacitance to ground. An active shunt regulator clamps VAUX to 5.25V (typical).", 3 VOUT (power) "Main Output of the Converter. The voltage at this pin is regulated to the voltage selected by VS1 and VS2 (see Table 1). Connect this pin to a reservoir capacitor or to a rechargeable battery. Any high current pulse loads (See Datasheet)", 4 VOUT2 (power) "Switched Output of the Converter. Connect this pin to a switched load. This output is open until VOUT_EN is driven high, then it is connected to VOUT through a 1ohm PMOS switch. If not used, this pin should be left open or (See Datasheet)", 5 VOUT2_EN (in) "Enable Input for VOUT2. VOUT2 will be enabled when this pin is driven high. There is an internal 5M pull-down resistor on this pin. If not used, this pin can be left open or grounded.", 6 PGOOD (oc) "Power Good Output. When VOUT is within 7.5% of its programmed value, this pin will be pulled up to the LDO voltage through a 1M resistor. If VOUT drops 9% below its programmed value PGOOD will go low. This pin can sink up to (See Datasheet)", 7 VLDO (power) "Output of the 2.2V LDO. Connect a 2.2uF or larger ceramic capacitor from this pin to GND. If not used, this pin should be tied to VAUX.", 8 GND (power) "Ground Pins. Connect these pins directly to the ground plane. The exposed pad serves as a ground connection and as a means of conducting heat away from the die.", 9 C1B (power) "Input to the Charge Pump and Recti?er Circuit for Channel B. Connect a capacitor from this pin to the secondary winding of the “B” step-up transformer. See the Applications Information section for recommended capa(See Datasheet)", 10 C2B (in) "Input to the Gate Drive Circuit for SWB. Connect a capacitor from this pin to the secondary winding of the “B” step-up transformer. See the Applications Information section for recommended capacitor values.", 11 GND (power) "Ground Pins. Connect these pins directly to the ground plane. The exposed pad serves as a ground connection and as a means of conducting heat away from the die.", 12 SWB (power) "Connection to the Internal N-Channel Switch for Channel B. Connect this pin to the primary winding of the “B” transformer.", 13 VINB (power) "Connection to the Internal N-Channel Switch for Channel B. Connect this pin to the other side of the input voltage source (see Typical Applications).", 14 VINA (power) "Connection to the Internal N-Channel Switch for Channel A. Connect this pin to one side of the input voltage source (see Typical Applications).", 15 SWA (power) "Connection to the Internal N-Channel Switch for Channel A. Connect this pin to the primary winding of the “A” transformer.", 16 GND (power) "Ground Pins. Connect these pins directly to the ground plane. The exposed pad serves as a ground connection and as a means of conducting heat away from the die.", 17 C2A (in) "Input to the Gate Drive Circuit for SWB. Connect a capacitor from this pin to the secondary winding of the “A” step-up transformer. See the Applications Information section for recommended capacitor values.", 18 C1A (power) "Input to the Charge Pump and Recti?er Circuit for Channel A. Connect a capacitor from this pin to the secondary winding of the “A” step-up transformer. See the Applications Information section for recommended capa(See Datasheet)", 19 VS1 (in) "VOUT Select Pin 1. Connect this pin to ground or VAUX to program the output voltage (see Table 1).", 20 VS2 (in) "VOUT Select Pin 2. Connect this pin to ground or VAUX to program the output voltage (see Table 1).", 21 GND (power) "Ground Pins. Connect these pins directly to the ground plane. The exposed pad serves as a ground connection and as a means of conducting heat away from the die."

## LTC3109IUF#TRPBF
designator U?
Auto-Polarity, Ultralow Voltage Step-Up Converter and Power Manager, 20-pin QFN (UF20), -40 to 125 degC, Pb-Free, Tape and Reel; Manufacturer: Linear Technology; PartNumber: LTC3109IUF#TRPBF; Energy Source: Thermoelectric; Number of Outputs: 3; Topology: Boost; Vin Max(V): 0.5; Vin Min(V): 0.02; Vout Max(V): 5; DatasheetVersion: Rev. A; PackageVersion: Rev. A, 10/2010; PackageReference: UF20; PackageDescription: 20-Pin Plastic QFN, Body 4 x 4 mm, Pitch 0.5 mm; Supplier 1: Digi-Key; Supplier Part Number 1: LTC3109IUF#TRPBF-ND; Packing: Tape and Reel; RoHS: TRUE; Mounting Technology: Surface Mount; Code_JEDEC: MO-220; ComponentLink1Description: Manufacturer URL; ComponentLink1URL: http://www.linear.com/; ComponentLink2Description: Datasheet; ComponentLink2URL: http://cds.linear.com/docs/en/datasheet/3109fa.pdf; ComponentLink3Description: Package Specification; ComponentLink3URL: http://cds.linear.com/docs/en/packaging/QFN_20_05-08-1710.pdf
footprint LT-UF-20_N (QFN, 20-Leads, Body 4.1x4.1mm, Pitch 0.5mm, Thermal Pad 2.45x2.45mm, IPC Medium Density)
footprint LT-UF-20_L (QFN, 20-Leads, Body 4.1x4.1mm, Pitch 0.5mm, Thermal Pad 2.45x2.45mm, IPC High Density)
footprint LT-UF-20_M (QFN, 20-Leads, Body 4.1x4.1mm, Pitch 0.5mm, Thermal Pad 2.45x2.45mm, IPC Low Density)
pins: 1 VSTORE (power) "Output for the Storage Capacitor or Battery. A large storage capacitor may be connected from this pin to GND for powering the system in the event the input voltage is lost. It will be charged up to the maximum VAUX clamp (See Datasheet)", 2 VAUX (power) "Output of the Internal Recti?er Circuit and VCC for the IC. Bypass VAUX with at least 1uF of capacitance to ground. An active shunt regulator clamps VAUX to 5.25V (typical).", 3 VOUT (power) "Main Output of the Converter. The voltage at this pin is regulated to the voltage selected by VS1 and VS2 (see Table 1). Connect this pin to a reservoir capacitor or to a rechargeable battery. Any high current pulse loads (See Datasheet)", 4 VOUT2 (power) "Switched Output of the Converter. Connect this pin to a switched load. This output is open until VOUT_EN is driven high, then it is connected to VOUT through a 1ohm PMOS switch. If not used, this pin should be left open or (See Datasheet)", 5 VOUT2_EN (in) "Enable Input for VOUT2. VOUT2 will be enabled when this pin is driven high. There is an internal 5M pull-down resistor on this pin. If not used, this pin can be left open or grounded.", 6 PGOOD (oc) "Power Good Output. When VOUT is within 7.5% of its programmed value, this pin will be pulled up to the LDO voltage through a 1M resistor. If VOUT drops 9% below its programmed value PGOOD will go low. This pin can sink up to (See Datasheet)", 7 VLDO (power) "Output of the 2.2V LDO. Connect a 2.2uF or larger ceramic capacitor from this pin to GND. If not used, this pin should be tied to VAUX.", 8 GND (power) "Ground Pins. Connect these pins directly to the ground plane. The exposed pad serves as a ground connection and as a means of conducting heat away from the die.", 9 C1B (power) "Input to the Charge Pump and Recti?er Circuit for Channel B. Connect a capacitor from this pin to the secondary winding of the “B” step-up transformer. See the Applications Information section for recommended capa(See Datasheet)", 10 C2B (in) "Input to the Gate Drive Circuit for SWB. Connect a capacitor from this pin to the secondary winding of the “B” step-up transformer. See the Applications Information section for recommended capacitor values.", 11 GND (power) "Ground Pins. Connect these pins directly to the ground plane. The exposed pad serves as a ground connection and as a means of conducting heat away from the die.", 12 SWB (power) "Connection to the Internal N-Channel Switch for Channel B. Connect this pin to the primary winding of the “B” transformer.", 13 VINB (power) "Connection to the Internal N-Channel Switch for Channel B. Connect this pin to the other side of the input voltage source (see Typical Applications).", 14 VINA (power) "Connection to the Internal N-Channel Switch for Channel A. Connect this pin to one side of the input voltage source (see Typical Applications).", 15 SWA (power) "Connection to the Internal N-Channel Switch for Channel A. Connect this pin to the primary winding of the “A” transformer.", 16 GND (power) "Ground Pins. Connect these pins directly to the ground plane. The exposed pad serves as a ground connection and as a means of conducting heat away from the die.", 17 C2A (in) "Input to the Gate Drive Circuit for SWB. Connect a capacitor from this pin to the secondary winding of the “A” step-up transformer. See the Applications Information section for recommended capacitor values.", 18 C1A (power) "Input to the Charge Pump and Recti?er Circuit for Channel A. Connect a capacitor from this pin to the secondary winding of the “A” step-up transformer. See the Applications Information section for recommended capa(See Datasheet)", 19 VS1 (in) "VOUT Select Pin 1. Connect this pin to ground or VAUX to program the output voltage (see Table 1).", 20 VS2 (in) "VOUT Select Pin 2. Connect this pin to ground or VAUX to program the output voltage (see Table 1).", 21 GND (power) "Ground Pins. Connect these pins directly to the ground plane. The exposed pad serves as a ground connection and as a means of conducting heat away from the die."